# EAGLE library part 15PIN_GROUP (library edebill)
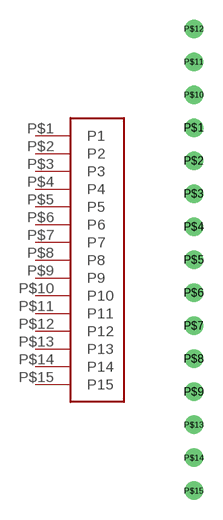
[diagram p6: symbol with the pads of 15PIN_GROUP; footprint 15PIN_GROUP]

Designator prefix -

## 15PIN_GROUP  [15PIN_GROUP]
P$1  P1
P$2  P2
P$3  P3
P$4  P4
P$5  P5
P$6  P6
P$7  P7
P$8  P8
P$9  P9
P$10  P10
P$11  P11
P$12  P12
P$13  P13
P$14  P14
P$15  P15

## Footprint 15PIN_GROUP (pad centres in mm)
drill 0.8 pad 1.422 round: P$1 0,10.16; P$2 0,7.62; P$3 0,5.08; P$4 0,2.54; P$5 0,0; P$6 0,-2.54; P$7 0,-5.08; P$8 0,-7.62; P$9 0,-10.16; P$10 0,12.7; P$11 0,15.24; P$12 0,17.78; P$13 0,-12.7; P$14 0,-15.24; P$15 0,-17.78